# Altium schematic symbol library Diode_Bridge.SchLib: 214 symbols (part 2 of 2)
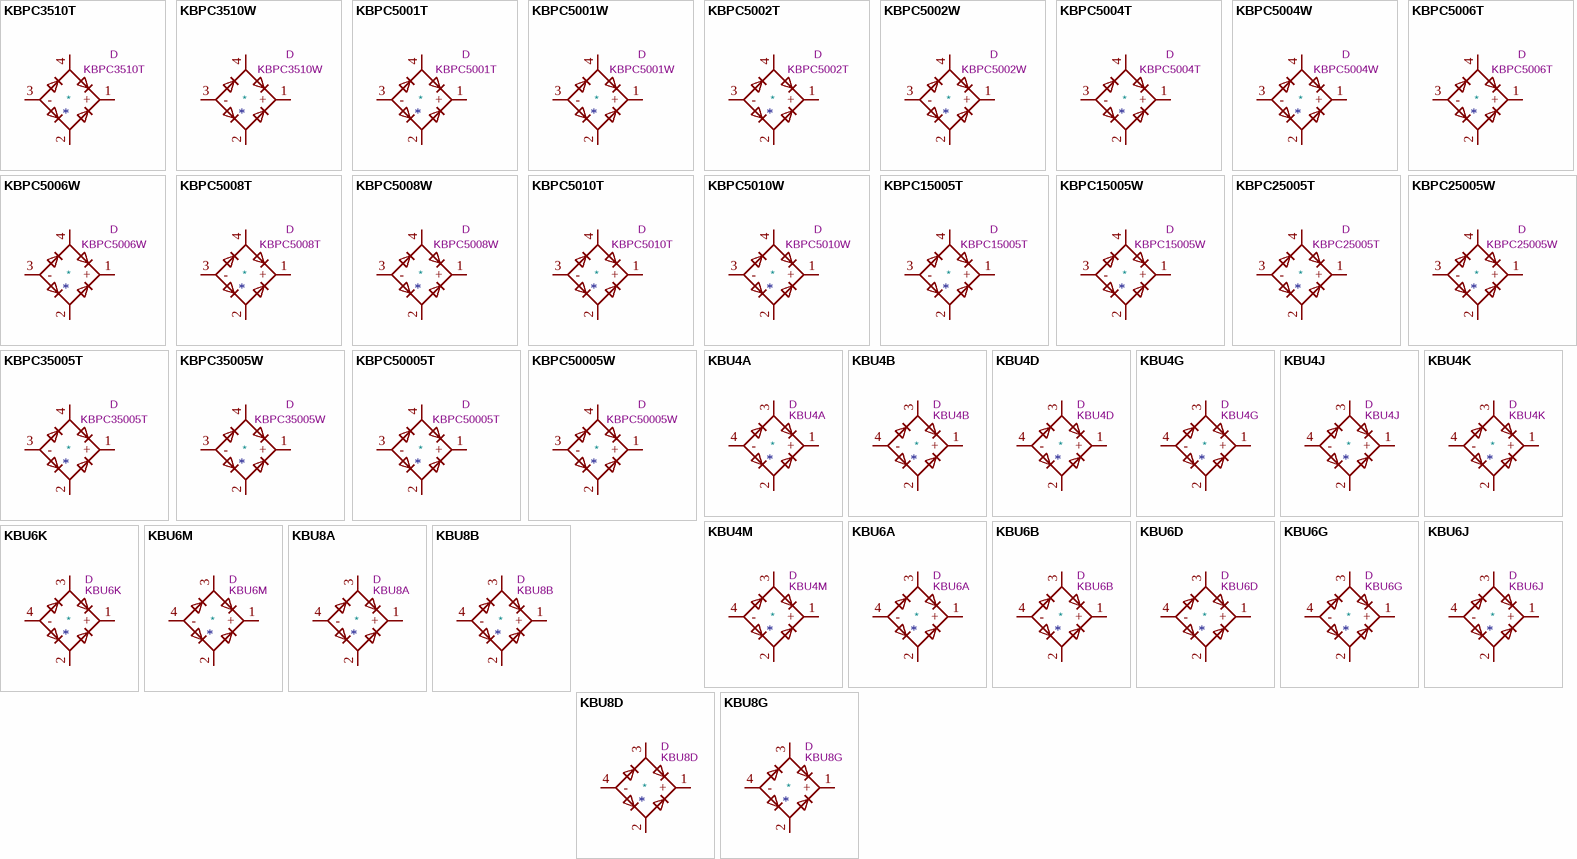
[diagram p6: symbols KBPC3510T to KBU8G]

## KBPC3510W
designator *  value KBPC3510W  Reference: D
Single-Phase Bridge Rectifier, 700V Vrms, 35A If, KBPC-W(WS); ki_keywords: diode full; ki_fp_filters: Diode*Bridge*KBPC?W*; Footprint: Diode_THT:Diode_Bridge_GeneSiC_KBPC_W; Datasheet: https://www.diodemodule.com/bridge-rectifier/kbpc/kbpc3510t.pdf; Description_: Single-Phase Bridge Rectifier, 700V Vrms, 35A If, KBPC-W(WS)
pins: 1 +, 2, 3 -, 4

## KBPC5001T
designator *  value KBPC5001T  Reference: D
Single-Phase Bridge Rectifier, 70V Vrms, 50A If, KBPC-T(FP); ki_keywords: diode full; ki_fp_filters: Diode*Bridge*KBPC?T*; Datasheet: https://www.diodemodule.com/bridge-rectifier/kbpc/kbpc5001t.pdf; Description_: Single-Phase Bridge Rectifier, 70V Vrms, 50A If, KBPC-T(FP)
pins: 1 +, 2, 3 -, 4

## KBPC5001W
designator *  value KBPC5001W  Reference: D
Single-Phase Bridge Rectifier, 70V Vrms, 50A If, KBPC-W(WS); ki_keywords: diode full; ki_fp_filters: Diode*Bridge*KBPC?W*; Footprint: Diode_THT:Diode_Bridge_GeneSiC_KBPC_W; Datasheet: https://www.diodemodule.com/bridge-rectifier/kbpc/kbpc5001t.pdf; Description_: Single-Phase Bridge Rectifier, 70V Vrms, 50A If, KBPC-W(WS)
pins: 1 +, 2, 3 -, 4

## KBPC5002T
designator *  value KBPC5002T  Reference: D
Single-Phase Bridge Rectifier, 140V Vrms, 50A If, KBPC-T(FP); ki_keywords: diode full; ki_fp_filters: Diode*Bridge*KBPC?T*; Datasheet: https://www.diodemodule.com/bridge-rectifier/kbpc/kbpc5002t.pdf; Description_: Single-Phase Bridge Rectifier, 140V Vrms, 50A If, KBPC-T(FP)
pins: 1 +, 2, 3 -, 4

## KBPC5002W
designator *  value KBPC5002W  Reference: D
Single-Phase Bridge Rectifier, 140V Vrms, 50A If, KBPC-W(WS); ki_keywords: diode full; ki_fp_filters: Diode*Bridge*KBPC?W*; Footprint: Diode_THT:Diode_Bridge_GeneSiC_KBPC_W; Datasheet: https://www.diodemodule.com/bridge-rectifier/kbpc/kbpc5002t.pdf; Description_: Single-Phase Bridge Rectifier, 140V Vrms, 50A If, KBPC-W(WS)
pins: 1 +, 2, 3 -, 4

## KBPC5004T
designator *  value KBPC5004T  Reference: D
Single-Phase Bridge Rectifier, 280V Vrms, 50A If, KBPC-T(FP); ki_keywords: diode full; ki_fp_filters: Diode*Bridge*KBPC?T*; Datasheet: https://www.diodemodule.com/bridge-rectifier/kbpc/kbpc5004t.pdf; Description_: Single-Phase Bridge Rectifier, 280V Vrms, 50A If, KBPC-T(FP)
pins: 1 +, 2, 3 -, 4

## KBPC5004W
designator *  value KBPC5004W  Reference: D
Single-Phase Bridge Rectifier, 280V Vrms, 50A If, KBPC-W(WS); ki_keywords: diode full; ki_fp_filters: Diode*Bridge*KBPC?W*; Footprint: Diode_THT:Diode_Bridge_GeneSiC_KBPC_W; Datasheet: https://www.diodemodule.com/bridge-rectifier/kbpc/kbpc5004t.pdf; Description_: Single-Phase Bridge Rectifier, 280V Vrms, 50A If, KBPC-W(WS)
pins: 1 +, 2, 3 -, 4

## KBPC5006T
designator *  value KBPC5006T  Reference: D
Single-Phase Bridge Rectifier, 420V Vrms, 50A If, KBPC-T(FP); ki_keywords: diode full; ki_fp_filters: Diode*Bridge*KBPC?T*; Datasheet: https://www.diodemodule.com/bridge-rectifier/kbpc/kbpc5006t.pdf; Description_: Single-Phase Bridge Rectifier, 420V Vrms, 50A If, KBPC-T(FP)
pins: 1 +, 2, 3 -, 4

## KBPC5006W
designator *  value KBPC5006W  Reference: D
Single-Phase Bridge Rectifier, 420V Vrms, 50A If, KBPC-W(WS); ki_keywords: diode full; ki_fp_filters: Diode*Bridge*KBPC?W*; Footprint: Diode_THT:Diode_Bridge_GeneSiC_KBPC_W; Datasheet: https://www.diodemodule.com/bridge-rectifier/kbpc/kbpc5006t.pdf; Description_: Single-Phase Bridge Rectifier, 420V Vrms, 50A If, KBPC-W(WS)
pins: 1 +, 2, 3 -, 4

## KBPC5008T
designator *  value KBPC5008T  Reference: D
Single-Phase Bridge Rectifier, 560V Vrms, 50A If, KBPC-T(FP); ki_keywords: diode full; ki_fp_filters: Diode*Bridge*KBPC?T*; Datasheet: https://www.diodemodule.com/bridge-rectifier/kbpc/kbpc5008t.pdf; Description_: Single-Phase Bridge Rectifier, 560V Vrms, 50A If, KBPC-T(FP)
pins: 1 +, 2, 3 -, 4

## KBPC5008W
designator *  value KBPC5008W  Reference: D
Single-Phase Bridge Rectifier, 560V Vrms, 50A If, KBPC-W(WS); ki_keywords: diode full; ki_fp_filters: Diode*Bridge*KBPC?W*; Footprint: Diode_THT:Diode_Bridge_GeneSiC_KBPC_W; Datasheet: https://www.diodemodule.com/bridge-rectifier/kbpc/kbpc5008t.pdf; Description_: Single-Phase Bridge Rectifier, 560V Vrms, 50A If, KBPC-W(WS)
pins: 1 +, 2, 3 -, 4

## KBPC5010T
designator *  value KBPC5010T  Reference: D
Single-Phase Bridge Rectifier, 700V Vrms, 50A If, KBPC-T(FP); ki_keywords: diode full; ki_fp_filters: Diode*Bridge*KBPC?T*; Datasheet: https://www.diodemodule.com/bridge-rectifier/kbpc/kbpc5010t.pdf; Description_: Single-Phase Bridge Rectifier, 700V Vrms, 50A If, KBPC-T(FP)
pins: 1 +, 2, 3 -, 4

## KBPC5010W
designator *  value KBPC5010W  Reference: D
Single-Phase Bridge Rectifier, 700V Vrms, 50A If, KBPC-W(WS); ki_keywords: diode full; ki_fp_filters: Diode*Bridge*KBPC?W*; Footprint: Diode_THT:Diode_Bridge_GeneSiC_KBPC_W; Datasheet: https://www.diodemodule.com/bridge-rectifier/kbpc/kbpc5010t.pdf; Description_: Single-Phase Bridge Rectifier, 700V Vrms, 50A If, KBPC-W(WS)
pins: 1 +, 2, 3 -, 4

## KBPC15005T
designator *  value KBPC15005T  Reference: D
Single-Phase Bridge Rectifier, 35V Vrms, 15A If, KBPC-T(FP); ki_keywords: diode full; ki_fp_filters: Diode*Bridge*KBPC?T*; Datasheet: https://www.diodemodule.com/bridge-rectifier/kbpc/kbpc15005t.pdf; Description_: Single-Phase Bridge Rectifier, 35V Vrms, 15A If, KBPC-T(FP)
pins: 1 +, 2, 3 -, 4

## KBPC15005W
designator *  value KBPC15005W  Reference: D
Single-Phase Bridge Rectifier, 35V Vrms, 15A If, KBPC-W(WS); ki_keywords: diode full; ki_fp_filters: Diode*Bridge*KBPC?W*; Footprint: Diode_THT:Diode_Bridge_GeneSiC_KBPC_W; Datasheet: https://www.diodemodule.com/bridge-rectifier/kbpc/kbpc15005t.pdf; Description_: Single-Phase Bridge Rectifier, 35V Vrms, 15A If, KBPC-W(WS)
pins: 1 +, 2, 3 -, 4

## KBPC25005T
designator *  value KBPC25005T  Reference: D
Single-Phase Bridge Rectifier, 35V Vrms, 25A If, KBPC-T(FP); ki_keywords: diode full; ki_fp_filters: Diode*Bridge*KBPC?T*; Datasheet: https://www.diodemodule.com/bridge-rectifier/kbpc/kbpc25005t.pdf; Description_: Single-Phase Bridge Rectifier, 35V Vrms, 25A If, KBPC-T(FP)
pins: 1 +, 2, 3 -, 4

## KBPC25005W
designator *  value KBPC25005W  Reference: D
Single-Phase Bridge Rectifier, 35V Vrms, 25A If, KBPC-W(WS); ki_keywords: diode full; ki_fp_filters: Diode*Bridge*KBPC?W*; Footprint: Diode_THT:Diode_Bridge_GeneSiC_KBPC_W; Datasheet: https://www.diodemodule.com/bridge-rectifier/kbpc/kbpc25005t.pdf; Description_: Single-Phase Bridge Rectifier, 35V Vrms, 25A If, KBPC-W(WS)
pins: 1 +, 2, 3 -, 4

## KBPC35005T
designator *  value KBPC35005T  Reference: D
Single-Phase Bridge Rectifier, 35V Vrms, 35A If, KBPC-T(FP); ki_keywords: diode full; ki_fp_filters: Diode*Bridge*KBPC?T*; Datasheet: https://www.diodemodule.com/bridge-rectifier/kbpc/kbpc35005t.pdf; Description_: Single-Phase Bridge Rectifier, 35V Vrms, 35A If, KBPC-T(FP)
pins: 1 +, 2, 3 -, 4

## KBPC35005W
designator *  value KBPC35005W  Reference: D
Single-Phase Bridge Rectifier, 35V Vrms, 35A If, KBPC-W(WS); ki_keywords: diode full; ki_fp_filters: Diode*Bridge*KBPC?W*; Footprint: Diode_THT:Diode_Bridge_GeneSiC_KBPC_W; Datasheet: https://www.diodemodule.com/bridge-rectifier/kbpc/kbpc35005t.pdf; Description_: Single-Phase Bridge Rectifier, 35V Vrms, 35A If, KBPC-W(WS)
pins: 1 +, 2, 3 -, 4

## KBPC50005T
designator *  value KBPC50005T  Reference: D
Single-Phase Bridge Rectifier, 35V Vrms, 50A If, KBPC-T(FP); ki_keywords: diode full; ki_fp_filters: Diode*Bridge*KBPC?T*; Datasheet: https://www.diodemodule.com/bridge-rectifier/kbpc/kbpc50005t.pdf; Description_: Single-Phase Bridge Rectifier, 35V Vrms, 50A If, KBPC-T(FP)
pins: 1 +, 2, 3 -, 4

## KBPC50005W
designator *  value KBPC50005W  Reference: D
Single-Phase Bridge Rectifier, 35V Vrms, 50A If, KBPC-W(WS); ki_keywords: diode full; ki_fp_filters: Diode*Bridge*KBPC?W*; Footprint: Diode_THT:Diode_Bridge_GeneSiC_KBPC_W; Datasheet: https://www.diodemodule.com/bridge-rectifier/kbpc/kbpc50005t.pdf; Description_: Single-Phase Bridge Rectifier, 35V Vrms, 50A If, KBPC-W(WS)
pins: 1 +, 2, 3 -, 4

## KBU4A
designator *  value KBU4A  Reference: D
Single-Phase Bridge Rectifier, 35V Vrms, 4.0A If, KBU package; ki_keywords: rectifier acdc; ki_fp_filters: Diode*Bridge*Vishay*KBU*; Footprint: Diode_THT:Diode_Bridge_Vishay_KBU; Datasheet: http://www.vishay.com/docs/88656/kbu4.pdf; Description_: Single-Phase Bridge Rectifier, 35V Vrms, 4.0A If, KBU package
pins: 1 +, 2, 3, 4 -

## KBU4B
designator *  value KBU4B  Reference: D
Single-Phase Bridge Rectifier, 70V Vrms, 4.0A If, KBU package; ki_keywords: rectifier acdc; ki_fp_filters: Diode*Bridge*Vishay*KBU*; Footprint: Diode_THT:Diode_Bridge_Vishay_KBU; Datasheet: http://www.vishay.com/docs/88656/kbu4.pdf; Description_: Single-Phase Bridge Rectifier, 70V Vrms, 4.0A If, KBU package
pins: 1 +, 2, 3, 4 -

## KBU4D
designator *  value KBU4D  Reference: D
Single-Phase Bridge Rectifier, 140V Vrms, 4.0A If, KBU package; ki_keywords: rectifier acdc; ki_fp_filters: Diode*Bridge*Vishay*KBU*; Footprint: Diode_THT:Diode_Bridge_Vishay_KBU; Datasheet: http://www.vishay.com/docs/88656/kbu4.pdf; Description_: Single-Phase Bridge Rectifier, 140V Vrms, 4.0A If, KBU package
pins: 1 +, 2, 3, 4 -

## KBU4G
designator *  value KBU4G  Reference: D
Single-Phase Bridge Rectifier, 280V Vrms, 4.0A If, KBU package; ki_keywords: rectifier acdc; ki_fp_filters: Diode*Bridge*Vishay*KBU*; Footprint: Diode_THT:Diode_Bridge_Vishay_KBU; Datasheet: http://www.vishay.com/docs/88656/kbu4.pdf; Description_: Single-Phase Bridge Rectifier, 280V Vrms, 4.0A If, KBU package
pins: 1 +, 2, 3, 4 -

## KBU4J
designator *  value KBU4J  Reference: D
Single-Phase Bridge Rectifier, 420V Vrms, 4.0A If, KBU package; ki_keywords: rectifier acdc; ki_fp_filters: Diode*Bridge*Vishay*KBU*; Footprint: Diode_THT:Diode_Bridge_Vishay_KBU; Datasheet: http://www.vishay.com/docs/88656/kbu4.pdf; Description_: Single-Phase Bridge Rectifier, 420V Vrms, 4.0A If, KBU package
pins: 1 +, 2, 3, 4 -

## KBU4K
designator *  value KBU4K  Reference: D
Single-Phase Bridge Rectifier, 560V Vrms, 4.0A If, KBU package; ki_keywords: rectifier acdc; ki_fp_filters: Diode*Bridge*Vishay*KBU*; Footprint: Diode_THT:Diode_Bridge_Vishay_KBU; Datasheet: http://www.vishay.com/docs/88656/kbu4.pdf; Description_: Single-Phase Bridge Rectifier, 560V Vrms, 4.0A If, KBU package
pins: 1 +, 2, 3, 4 -

## KBU4M
designator *  value KBU4M  Reference: D
Single-Phase Bridge Rectifier, 700V Vrms, 4.0A If, KBU package; ki_keywords: rectifier acdc; ki_fp_filters: Diode*Bridge*Vishay*KBU*; Footprint: Diode_THT:Diode_Bridge_Vishay_KBU; Datasheet: http://www.vishay.com/docs/88656/kbu4.pdf; Description_: Single-Phase Bridge Rectifier, 700V Vrms, 4.0A If, KBU package
pins: 1 +, 2, 3, 4 -

## KBU6A
designator *  value KBU6A  Reference: D
Single-Phase Bridge Rectifier, 35V Vrms, 6.0A If, KBU package; ki_keywords: rectifier acdc; ki_fp_filters: Diode*Bridge*Vishay*KBU*; Footprint: Diode_THT:Diode_Bridge_Vishay_KBU; Datasheet: http://www.vishay.com/docs/88656/kbu6.pdf; Description_: Single-Phase Bridge Rectifier, 35V Vrms, 6.0A If, KBU package
pins: 1 +, 2, 3, 4 -

## KBU6B
designator *  value KBU6B  Reference: D
Single-Phase Bridge Rectifier, 70V Vrms, 6.0A If, KBU package; ki_keywords: rectifier acdc; ki_fp_filters: Diode*Bridge*Vishay*KBU*; Footprint: Diode_THT:Diode_Bridge_Vishay_KBU; Datasheet: http://www.vishay.com/docs/88656/kbu6.pdf; Description_: Single-Phase Bridge Rectifier, 70V Vrms, 6.0A If, KBU package
pins: 1 +, 2, 3, 4 -

## KBU6D
designator *  value KBU6D  Reference: D
Single-Phase Bridge Rectifier, 140V Vrms, 6.0A If, KBU package; ki_keywords: rectifier acdc; ki_fp_filters: Diode*Bridge*Vishay*KBU*; Footprint: Diode_THT:Diode_Bridge_Vishay_KBU; Datasheet: http://www.vishay.com/docs/88656/kbu6.pdf; Description_: Single-Phase Bridge Rectifier, 140V Vrms, 6.0A If, KBU package
pins: 1 +, 2, 3, 4 -

## KBU6G
designator *  value KBU6G  Reference: D
Single-Phase Bridge Rectifier, 280V Vrms, 6.0A If, KBU package; ki_keywords: rectifier acdc; ki_fp_filters: Diode*Bridge*Vishay*KBU*; Footprint: Diode_THT:Diode_Bridge_Vishay_KBU; Datasheet: http://www.vishay.com/docs/88656/kbu6.pdf; Description_: Single-Phase Bridge Rectifier, 280V Vrms, 6.0A If, KBU package
pins: 1 +, 2, 3, 4 -

## KBU6J
designator *  value KBU6J  Reference: D
Single-Phase Bridge Rectifier, 420V Vrms, 6.0A If, KBU package; ki_keywords: rectifier acdc; ki_fp_filters: Diode*Bridge*Vishay*KBU*; Footprint: Diode_THT:Diode_Bridge_Vishay_KBU; Datasheet: http://www.vishay.com/docs/88656/kbu6.pdf; Description_: Single-Phase Bridge Rectifier, 420V Vrms, 6.0A If, KBU package
pins: 1 +, 2, 3, 4 -

## KBU6K
designator *  value KBU6K  Reference: D
Single-Phase Bridge Rectifier, 560V Vrms, 6.0A If, KBU package; ki_keywords: rectifier acdc; ki_fp_filters: Diode*Bridge*Vishay*KBU*; Footprint: Diode_THT:Diode_Bridge_Vishay_KBU; Datasheet: http://www.vishay.com/docs/88656/kbu6.pdf; Description_: Single-Phase Bridge Rectifier, 560V Vrms, 6.0A If, KBU package
pins: 1 +, 2, 3, 4 -

## KBU6M
designator *  value KBU6M  Reference: D
Single-Phase Bridge Rectifier, 700V Vrms, 6.0A If, KBU package; ki_keywords: rectifier acdc; ki_fp_filters: Diode*Bridge*Vishay*KBU*; Footprint: Diode_THT:Diode_Bridge_Vishay_KBU; Datasheet: http://www.vishay.com/docs/88656/kbu6.pdf; Description_: Single-Phase Bridge Rectifier, 700V Vrms, 6.0A If, KBU package
pins: 1 +, 2, 3, 4 -

## KBU8A
designator *  value KBU8A  Reference: D
Single-Phase Bridge Rectifier, 35V Vrms, 8.0A If, KBU package; ki_keywords: rectifier acdc; ki_fp_filters: Diode*Bridge*Vishay*KBU*; Footprint: Diode_THT:Diode_Bridge_Vishay_KBU; Datasheet: http://www.vishay.com/docs/88656/kbu8.pdf; Description_: Single-Phase Bridge Rectifier, 35V Vrms, 8.0A If, KBU package
pins: 1 +, 2, 3, 4 -

## KBU8B
designator *  value KBU8B  Reference: D
Single-Phase Bridge Rectifier, 70V Vrms, 8.0A If, KBU package; ki_keywords: rectifier acdc; ki_fp_filters: Diode*Bridge*Vishay*KBU*; Footprint: Diode_THT:Diode_Bridge_Vishay_KBU; Datasheet: http://www.vishay.com/docs/88656/kbu8.pdf; Description_: Single-Phase Bridge Rectifier, 70V Vrms, 8.0A If, KBU package
pins: 1 +, 2, 3, 4 -

## KBU8D
designator *  value KBU8D  Reference: D
Single-Phase Bridge Rectifier, 140V Vrms, 8.0A If, KBU package; ki_keywords: rectifier acdc; ki_fp_filters: Diode*Bridge*Vishay*KBU*; Footprint: Diode_THT:Diode_Bridge_Vishay_KBU; Datasheet: http://www.vishay.com/docs/88656/kbu8.pdf; Description_: Single-Phase Bridge Rectifier, 140V Vrms, 8.0A If, KBU package
pins: 1 +, 2, 3, 4 -

## KBU8G
designator *  value KBU8G  Reference: D
Single-Phase Bridge Rectifier, 280V Vrms, 8.0A If, KBU package; ki_keywords: rectifier acdc; ki_fp_filters: Diode*Bridge*Vishay*KBU*; Footprint: Diode_THT:Diode_Bridge_Vishay_KBU; Datasheet: http://www.vishay.com/docs/88656/kbu8.pdf; Description_: Single-Phase Bridge Rectifier, 280V Vrms, 8.0A If, KBU package
pins: 1 +, 2, 3, 4 -

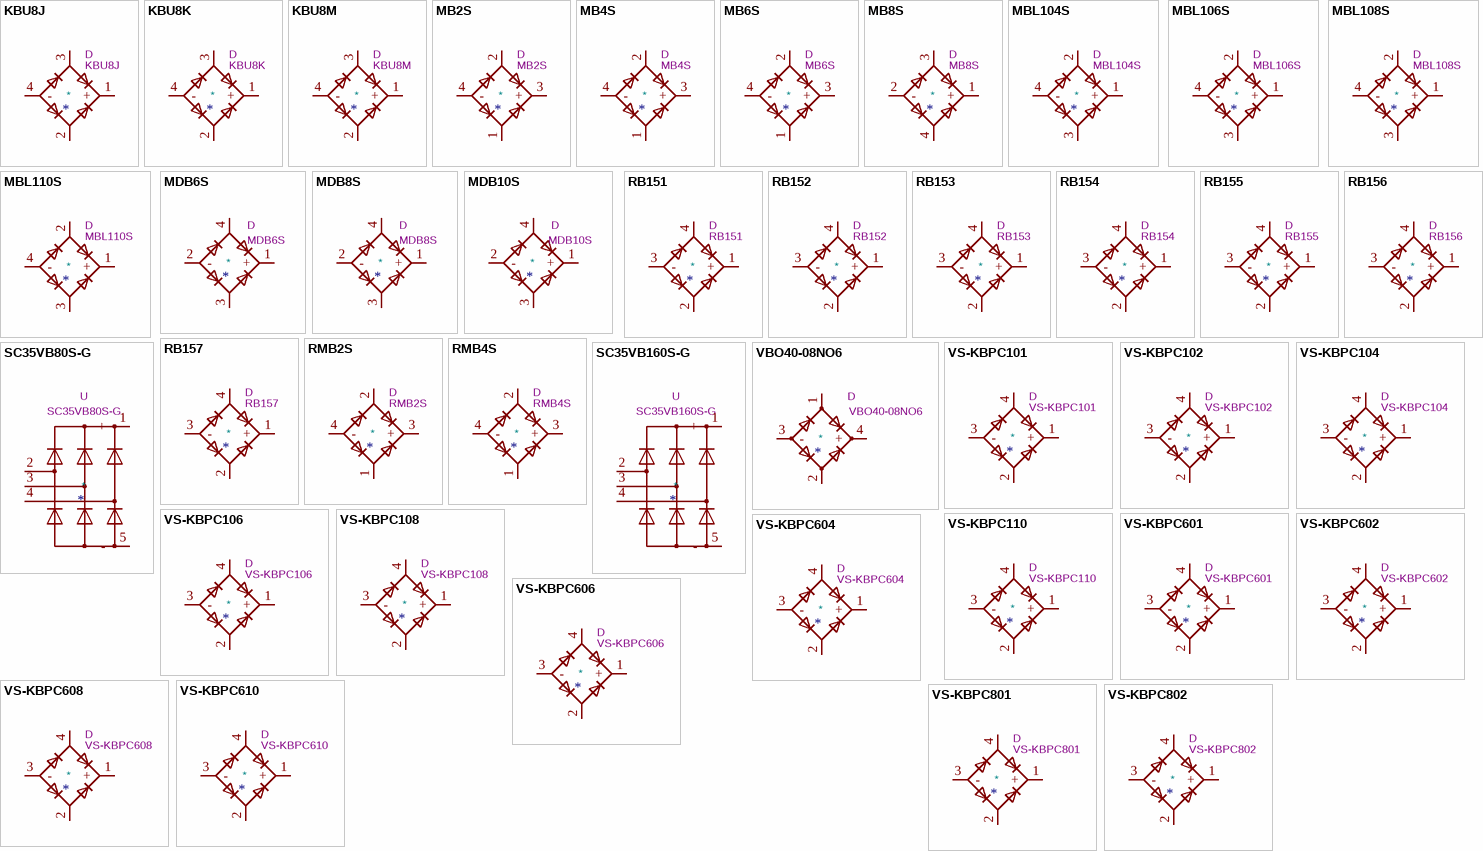
[diagram p4: symbols KBU8J to VS-KBPC802]

## KBU8J
designator *  value KBU8J  Reference: D
Single-Phase Bridge Rectifier, 420V Vrms, 8.0A If, KBU package; ki_keywords: rectifier acdc; ki_fp_filters: Diode*Bridge*Vishay*KBU*; Footprint: Diode_THT:Diode_Bridge_Vishay_KBU; Datasheet: http://www.vishay.com/docs/88656/kbu8.pdf; Description_: Single-Phase Bridge Rectifier, 420V Vrms, 8.0A If, KBU package
pins: 1 +, 2, 3, 4 -

## KBU8K
designator *  value KBU8K  Reference: D
Single-Phase Bridge Rectifier, 560V Vrms, 8.0A If, KBU package; ki_keywords: rectifier acdc; ki_fp_filters: Diode*Bridge*Vishay*KBU*; Footprint: Diode_THT:Diode_Bridge_Vishay_KBU; Datasheet: http://www.vishay.com/docs/88656/kbu8.pdf; Description_: Single-Phase Bridge Rectifier, 560V Vrms, 8.0A If, KBU package
pins: 1 +, 2, 3, 4 -

## KBU8M
designator *  value KBU8M  Reference: D
Single-Phase Bridge Rectifier, 700V Vrms, 8.0A If, KBU package; ki_keywords: rectifier acdc; ki_fp_filters: Diode*Bridge*Vishay*KBU*; Footprint: Diode_THT:Diode_Bridge_Vishay_KBU; Datasheet: http://www.vishay.com/docs/88656/kbu8.pdf; Description_: Single-Phase Bridge Rectifier, 700V Vrms, 8.0A If, KBU package
pins: 1 +, 2, 3, 4 -

## MB2S
designator *  value MB2S  Reference: D
Miniature Glass Passivated Single-Phase Surface Mount Bridge Rectifiers, 140V Vrms, 0.5A If, TO-269AA; ki_keywords: rectifier acdc; ki_fp_filters: TO?269AA*; Footprint: Package_TO_SOT_SMD:TO-269AA; Datasheet: http://www.vishay.com/docs/88661/mb2s.pdf; Description_: Miniature Glass Passivated Single-Phase Surface Mount Bridge Rectifiers, 140V Vrms, 0.5A If, TO-269AA
pins: 1, 2, 3 +, 4 -

## MB4S
designator *  value MB4S  Reference: D
Miniature Glass Passivated Single-Phase Surface Mount Bridge Rectifiers, 280V Vrms, 0.5A If, TO-269AA; ki_keywords: rectifier acdc; ki_fp_filters: TO?269AA*; Footprint: Package_TO_SOT_SMD:TO-269AA; Datasheet: http://www.vishay.com/docs/88661/mb2s.pdf; Description_: Miniature Glass Passivated Single-Phase Surface Mount Bridge Rectifiers, 280V Vrms, 0.5A If, TO-269AA
pins: 1, 2, 3 +, 4 -

## MB6S
designator *  value MB6S  Reference: D
Miniature Glass Passivated Single-Phase Surface Mount Bridge Rectifiers, 700V Vrms, 1.0A If, DFS SMD package; ki_keywords: rectifier acdc; ki_fp_filters: TO?269AA*; Footprint: Package_TO_SOT_SMD:TO-269AA; Datasheet: http://www.vishay.com/docs/88573/dfs.pdf; Description_: Miniature Glass Passivated Single-Phase Surface Mount Bridge Rectifiers, 700V Vrms, 1.0A If, DFS SMD package
pins: 1, 2, 3 +, 4 -

## MB8S
designator *  value MB8S  Reference: D
Bridge Rectifier, 560V Vrms, 35A Ifsm, 0.5A If(av), SOIC-4 (Onsemi CASE 751EP); ki_keywords: Onsemi diode-bridge; ki_fp_filters: OnSemi?751EP?SOIC*3.9x4.725mm?P2.54mm*; Footprint: Package_SO:OnSemi_751EP_SOIC-4_3.9x4.725mm_P2.54mm; Datasheet: https://www.onsemi.com/pdf/datasheet/mb8s-d.pdf; Description_: Bridge Rectifier, 560V Vrms, 35A Ifsm, 0.5A If(av), SOIC-4 (Onsemi CASE 751EP)
pins: 1 +, 2 -, 3, 4

## MBL104S
designator *  value MBL104S  Reference: D
Miniature Glass Passivated Single-Phase Surface Mount Bridge Rectifiers, 280V Vrms, 1.0A If, MBLS SMD package; ki_keywords: rectifier acdc; ki_fp_filters: Diode*Bridge*Vishay*MBLS*; Footprint: Diode_SMD:Diode_Bridge_Vishay_MBLS; Datasheet: http://www.vishay.com/docs/89959/mbl104s.pdf; Description_: Miniature Glass Passivated Single-Phase Surface Mount Bridge Rectifiers, 280V Vrms, 1.0A If, MBLS SMD package
pins: 1 +, 2, 3, 4 -

## MBL106S
designator *  value MBL106S  Reference: D
Miniature Glass Passivated Single-Phase Surface Mount Bridge Rectifiers, 420V Vrms, 1.0A If, MBLS SMD package; ki_keywords: rectifier acdc; ki_fp_filters: Diode*Bridge*Vishay*MBLS*; Footprint: Diode_SMD:Diode_Bridge_Vishay_MBLS; Datasheet: http://www.vishay.com/docs/89959/mbl104s.pdf; Description_: Miniature Glass Passivated Single-Phase Surface Mount Bridge Rectifiers, 420V Vrms, 1.0A If, MBLS SMD package
pins: 1 +, 2, 3, 4 -

## MBL108S
designator *  value MBL108S  Reference: D
Miniature Glass Passivated Single-Phase Surface Mount Bridge Rectifiers, 560V Vrms, 1.0A If, MBLS SMD package; ki_keywords: rectifier acdc; ki_fp_filters: Diode*Bridge*Vishay*MBLS*; Footprint: Diode_SMD:Diode_Bridge_Vishay_MBLS; Datasheet: http://www.vishay.com/docs/89959/mbl104s.pdf; Description_: Miniature Glass Passivated Single-Phase Surface Mount Bridge Rectifiers, 560V Vrms, 1.0A If, MBLS SMD package
pins: 1 +, 2, 3, 4 -

## MBL110S
designator *  value MBL110S  Reference: D
Miniature Glass Passivated Single-Phase Surface Mount Bridge Rectifiers, 700V Vrms, 1.0A If, MBLS SMD package; ki_keywords: rectifier acdc; ki_fp_filters: Diode*Bridge*Vishay*MBLS*; Footprint: Diode_SMD:Diode_Bridge_Vishay_MBLS; Datasheet: http://www.vishay.com/docs/89959/mbl104s.pdf; Description_: Miniature Glass Passivated Single-Phase Surface Mount Bridge Rectifiers, 700V Vrms, 1.0A If, MBLS SMD package
pins: 1 +, 2, 3, 4 -

## MDB6S
designator *  value MDB6S  Reference: D
Single-Phase Bridge Rectifier, 420V Vrms, 1A If, TSSOP-4; ki_keywords: bridge diode rectifier ac dc acdc ac-dc; ki_fp_filters: TSSOP*4.4x5mm*P4mm*; Footprint: Package_SO:TSSOP-4_4.4x5mm_P4mm; Datasheet: https://www.onsemi.com/pub/Collateral/MDB8S-D.PDF; Description_: Single-Phase Bridge Rectifier, 420V Vrms, 1A If, TSSOP-4
pins: 1 +, 2 -, 3, 4

## MDB8S
designator *  value MDB8S  Reference: D
Single-Phase Bridge Rectifier, 560V Vrms, 1A If, TSSOP-4; ki_keywords: bridge diode rectifier ac dc acdc ac-dc; ki_fp_filters: TSSOP*4.4x5mm*P4mm*; Footprint: Package_SO:TSSOP-4_4.4x5mm_P4mm; Datasheet: https://www.onsemi.com/pub/Collateral/MDB8S-D.PDF; Description_: Single-Phase Bridge Rectifier, 560V Vrms, 1A If, TSSOP-4
pins: 1 +, 2 -, 3, 4

## MDB10S
designator *  value MDB10S  Reference: D
Single-Phase Bridge Rectifier, 700V Vrms, 1A If, TSSOP-4; ki_keywords: bridge diode rectifier ac dc acdc ac-dc; ki_fp_filters: TSSOP*4.4x5mm*P4mm*; Footprint: Package_SO:TSSOP-4_4.4x5mm_P4mm; Datasheet: https://www.onsemi.com/pub/Collateral/MDB8S-D.PDF; Description_: Single-Phase Bridge Rectifier, 700V Vrms, 1A If, TSSOP-4
pins: 1 +, 2 -, 3, 4

## RB151
designator *  value RB151  Reference: D
Single-Phase Bridge Rectifier, 35V Vrms, 1.5A If, WOG-like package; ki_keywords: rectifier acdc; ki_fp_filters: D*Bridge*Round*D9.0mm*; Footprint: Diode_THT:Diode_Bridge_Round_D9.0mm; Datasheet: https://www.rectron.com/public/product_datasheets/rb151-rb157.pdf; Description_: Single-Phase Bridge Rectifier, 35V Vrms, 1.5A If, WOG-like package
pins: 1 +, 2, 3 -, 4

## RB152
designator *  value RB152  Reference: D
Single-Phase Bridge Rectifier, 70V Vrms, 1.5A If, WOG-like package; ki_keywords: rectifier acdc; ki_fp_filters: D*Bridge*Round*D9.0mm*; Footprint: Diode_THT:Diode_Bridge_Round_D9.0mm; Datasheet: https://www.rectron.com/public/product_datasheets/rb151-rb157.pdf; Description_: Single-Phase Bridge Rectifier, 70V Vrms, 1.5A If, WOG-like package
pins: 1 +, 2, 3 -, 4

## RB153
designator *  value RB153  Reference: D
Single-Phase Bridge Rectifier, 140V Vrms, 1.5A If, WOG-like package; ki_keywords: rectifier acdc; ki_fp_filters: D*Bridge*Round*D9.0mm*; Footprint: Diode_THT:Diode_Bridge_Round_D9.0mm; Datasheet: https://www.rectron.com/public/product_datasheets/rb151-rb157.pdf; Description_: Single-Phase Bridge Rectifier, 140V Vrms, 1.5A If, WOG-like package
pins: 1 +, 2, 3 -, 4

## RB154
designator *  value RB154  Reference: D
Single-Phase Bridge Rectifier, 280V Vrms, 1.5A If, WOG-like package; ki_keywords: rectifier acdc; ki_fp_filters: D*Bridge*Round*D9.0mm*; Footprint: Diode_THT:Diode_Bridge_Round_D9.0mm; Datasheet: https://www.rectron.com/public/product_datasheets/rb151-rb157.pdf; Description_: Single-Phase Bridge Rectifier, 280V Vrms, 1.5A If, WOG-like package
pins: 1 +, 2, 3 -, 4

## RB155
designator *  value RB155  Reference: D
Single-Phase Bridge Rectifier, 420V Vrms, 1.5A If, WOG-like package; ki_keywords: rectifier acdc; ki_fp_filters: D*Bridge*Round*D9.0mm*; Footprint: Diode_THT:Diode_Bridge_Round_D9.0mm; Datasheet: https://www.rectron.com/public/product_datasheets/rb151-rb157.pdf; Description_: Single-Phase Bridge Rectifier, 420V Vrms, 1.5A If, WOG-like package
pins: 1 +, 2, 3 -, 4

## RB156
designator *  value RB156  Reference: D
Single-Phase Bridge Rectifier, 560V Vrms, 1.5A If, WOG-like package; ki_keywords: rectifier acdc; ki_fp_filters: D*Bridge*Round*D9.0mm*; Footprint: Diode_THT:Diode_Bridge_Round_D9.0mm; Datasheet: https://www.rectron.com/public/product_datasheets/rb151-rb157.pdf; Description_: Single-Phase Bridge Rectifier, 560V Vrms, 1.5A If, WOG-like package
pins: 1 +, 2, 3 -, 4

## RB157
designator *  value RB157  Reference: D
Single-Phase Bridge Rectifier, 700V Vrms, 1.5A If, WOG-like package; ki_keywords: rectifier acdc; ki_fp_filters: D*Bridge*Round*D9.0mm*; Footprint: Diode_THT:Diode_Bridge_Round_D9.0mm; Datasheet: https://www.rectron.com/public/product_datasheets/rb151-rb157.pdf; Description_: Single-Phase Bridge Rectifier, 700V Vrms, 1.5A If, WOG-like package
pins: 1 +, 2, 3 -, 4

## RMB2S
designator *  value RMB2S  Reference: D
Miniature Glass Passivated Single-Phase Surface Mount Bridge Rectifiers, 140V Vrms, 0.5A If, TO-269AA; ki_keywords: rectifier acdc; ki_fp_filters: TO?269AA*; Footprint: Package_TO_SOT_SMD:TO-269AA; Datasheet: http://www.vishay.com/docs/88705/rmbs.pdf; Description_: Miniature Glass Passivated Single-Phase Surface Mount Bridge Rectifiers, 140V Vrms, 0.5A If, TO-269AA
pins: 1, 2, 3 +, 4 -

## RMB4S
designator *  value RMB4S  Reference: D
Miniature Glass Passivated Single-Phase Surface Mount Bridge Rectifiers, 280V Vrms, 0.5A If, TO-269AA; ki_keywords: rectifier acdc; ki_fp_filters: TO?269AA*; Footprint: Package_TO_SOT_SMD:TO-269AA; Datasheet: http://www.vishay.com/docs/88705/rmbs.pdf; Description_: Miniature Glass Passivated Single-Phase Surface Mount Bridge Rectifiers, 280V Vrms, 0.5A If, TO-269AA
pins: 1, 2, 3 +, 4 -

## SC35VB80S-G
designator *  value SC35VB80S-G  Reference: U
560V Vrms, 35A If, SCVB-L; ki_keywords: Three-Phase Bridge Rectifier; ki_fp_filters: Diode*Bridge*Comchip*SCVB?L*; Footprint: Diode_THT:Diode_Bridge_Comchip_SCVB-L; Datasheet: https://www.comchiptech.com/admin/files/product/SC35VB80S-G%20Thru506369.%20SC35VB160S-G%20RevB.pdf; Description_: 560V Vrms, 35A If, SCVB-L
pins: 1 +, 2, 3, 4, 5 -

## SC35VB160S-G
designator *  value SC35VB160S-G  Reference: U
1120V Vrms, 35A If, SCVB-L; ki_keywords: Three-Phase Bridge Rectifier; ki_fp_filters: Diode*Bridge*Comchip*SCVB?L*; Footprint: Diode_THT:Diode_Bridge_Comchip_SCVB-L; Datasheet: https://www.comchiptech.com/admin/files/product/SC35VB80S-G%20Thru506369.%20SC35VB160S-G%20RevB.pdf; Description_: 1120V Vrms, 35A If, SCVB-L
pins: 1 +, 2, 3, 4, 5 -

## VBO40-08NO6
designator *  value VBO40-08NO6  Reference: D
Standard rectifier, Vrrm = 800V, Idav = 40A, SOT-227 (minibloc, ISOTOP); ki_keywords: IXYS ACDC-rectifier diode-bridge; ki_fp_filters: *SOT*227*; Footprint: Package_TO_SOT_THT:SOT-227; Datasheet: https://www.mouser.com/datasheet/2/240/media-3321323.pdf; Description_: Standard rectifier, Vrrm = 800V, Idav = 40A, SOT-227 (minibloc, ISOTOP)
pins: 1, 2, 3 -, 4 +

## VS-KBPC101
designator *  value VS-KBPC101  Reference: D
Single-Phase Bridge Rectifier, 40V Vrms, 3.0A If, KBPC1 package; ki_keywords: rectifier acdc; ki_fp_filters: D*Bridge*Vishay*KBPC1*; Footprint: Diode_THT:Diode_Bridge_Vishay_KBPC1; Datasheet: http://www.vishay.com/docs/93585/vs-kbpc1series.pdf; Description_: Single-Phase Bridge Rectifier, 40V Vrms, 3.0A If, KBPC1 package
pins: 1 +, 2, 3 -, 4

## VS-KBPC102
designator *  value VS-KBPC102  Reference: D
Single-Phase Bridge Rectifier, 80V Vrms, 3.0A If, KBPC1 package; ki_keywords: rectifier acdc; ki_fp_filters: D*Bridge*Vishay*KBPC1*; Footprint: Diode_THT:Diode_Bridge_Vishay_KBPC1; Datasheet: http://www.vishay.com/docs/93585/vs-kbpc1series.pdf; Description_: Single-Phase Bridge Rectifier, 80V Vrms, 3.0A If, KBPC1 package
pins: 1 +, 2, 3 -, 4

## VS-KBPC104
designator *  value VS-KBPC104  Reference: D
Single-Phase Bridge Rectifier, 125V Vrms, 3.0A If, KBPC1 package; ki_keywords: rectifier acdc; ki_fp_filters: D*Bridge*Vishay*KBPC1*; Footprint: Diode_THT:Diode_Bridge_Vishay_KBPC1; Datasheet: http://www.vishay.com/docs/93585/vs-kbpc1series.pdf; Description_: Single-Phase Bridge Rectifier, 125V Vrms, 3.0A If, KBPC1 package
pins: 1 +, 2, 3 -, 4

## VS-KBPC106
designator *  value VS-KBPC106  Reference: D
Single-Phase Bridge Rectifier, 250V Vrms, 3.0A If, KBPC1 package; ki_keywords: rectifier acdc; ki_fp_filters: D*Bridge*Vishay*KBPC1*; Footprint: Diode_THT:Diode_Bridge_Vishay_KBPC1; Datasheet: http://www.vishay.com/docs/93585/vs-kbpc1series.pdf; Description_: Single-Phase Bridge Rectifier, 250V Vrms, 3.0A If, KBPC1 package
pins: 1 +, 2, 3 -, 4

## VS-KBPC108
designator *  value VS-KBPC108  Reference: D
Single-Phase Bridge Rectifier, 380V Vrms, 3.0A If, KBPC1 package; ki_keywords: rectifier acdc; ki_fp_filters: D*Bridge*Vishay*KBPC1*; Footprint: Diode_THT:Diode_Bridge_Vishay_KBPC1; Datasheet: http://www.vishay.com/docs/93585/vs-kbpc1series.pdf; Description_: Single-Phase Bridge Rectifier, 380V Vrms, 3.0A If, KBPC1 package
pins: 1 +, 2, 3 -, 4

## VS-KBPC110
designator *  value VS-KBPC110  Reference: D
Single-Phase Bridge Rectifier, 500V Vrms, 3.0A If, KBPC1 package; ki_keywords: rectifier acdc; ki_fp_filters: D*Bridge*Vishay*KBPC1*; Footprint: Diode_THT:Diode_Bridge_Vishay_KBPC1; Datasheet: http://www.vishay.com/docs/93585/vs-kbpc1series.pdf; Description_: Single-Phase Bridge Rectifier, 500V Vrms, 3.0A If, KBPC1 package
pins: 1 +, 2, 3 -, 4

## VS-KBPC601
designator *  value VS-KBPC601  Reference: D
Single-Phase Bridge Rectifier, 40V Vrms, 6.0A If, KBPC6 package; ki_keywords: rectifier acdc; ki_fp_filters: D*Bridge*Vishay*KBPC6*; Footprint: Diode_THT:Diode_Bridge_Vishay_KBPC6; Datasheet: http://www.vishay.com/docs/93585/vs-kbpc1series.pdf; Description_: Single-Phase Bridge Rectifier, 40V Vrms, 6.0A If, KBPC6 package
pins: 1 +, 2, 3 -, 4

## VS-KBPC602
designator *  value VS-KBPC602  Reference: D
Single-Phase Bridge Rectifier, 80V Vrms, 6.0A If, KBPC6 package; ki_keywords: rectifier acdc; ki_fp_filters: D*Bridge*Vishay*KBPC6*; Footprint: Diode_THT:Diode_Bridge_Vishay_KBPC6; Datasheet: http://www.vishay.com/docs/93585/vs-kbpc1series.pdf; Description_: Single-Phase Bridge Rectifier, 80V Vrms, 6.0A If, KBPC6 package
pins: 1 +, 2, 3 -, 4

## VS-KBPC604
designator *  value VS-KBPC604  Reference: D
Single-Phase Bridge Rectifier, 125V Vrms, 6.0A If, KBPC6 package; ki_keywords: rectifier acdc; ki_fp_filters: D*Bridge*Vishay*KBPC6*; Footprint: Diode_THT:Diode_Bridge_Vishay_KBPC6; Datasheet: http://www.vishay.com/docs/93585/vs-kbpc1series.pdf; Description_: Single-Phase Bridge Rectifier, 125V Vrms, 6.0A If, KBPC6 package
pins: 1 +, 2, 3 -, 4

## VS-KBPC606
designator *  value VS-KBPC606  Reference: D
Single-Phase Bridge Rectifier, 250V Vrms, 6.0A If, KBPC6 package; ki_keywords: rectifier acdc; ki_fp_filters: D*Bridge*Vishay*KBPC6*; Footprint: Diode_THT:Diode_Bridge_Vishay_KBPC6; Datasheet: http://www.vishay.com/docs/93585/vs-kbpc1series.pdf; Description_: Single-Phase Bridge Rectifier, 250V Vrms, 6.0A If, KBPC6 package
pins: 1 +, 2, 3 -, 4

## VS-KBPC608
designator *  value VS-KBPC608  Reference: D
Single-Phase Bridge Rectifier, 380V Vrms, 6.0A If, KBPC6 package; ki_keywords: rectifier acdc; ki_fp_filters: D*Bridge*Vishay*KBPC6*; Footprint: Diode_THT:Diode_Bridge_Vishay_KBPC6; Datasheet: http://www.vishay.com/docs/93585/vs-kbpc1series.pdf; Description_: Single-Phase Bridge Rectifier, 380V Vrms, 6.0A If, KBPC6 package
pins: 1 +, 2, 3 -, 4

## VS-KBPC610
designator *  value VS-KBPC610  Reference: D
Single-Phase Bridge Rectifier, 500V Vrms, 6.0A If, KBPC6 package; ki_keywords: rectifier acdc; ki_fp_filters: D*Bridge*Vishay*KBPC6*; Footprint: Diode_THT:Diode_Bridge_Vishay_KBPC6; Datasheet: http://www.vishay.com/docs/93585/vs-kbpc1series.pdf; Description_: Single-Phase Bridge Rectifier, 500V Vrms, 6.0A If, KBPC6 package
pins: 1 +, 2, 3 -, 4

## VS-KBPC801
designator *  value VS-KBPC801  Reference: D
Single-Phase Bridge Rectifier, 40V Vrms, 8.0A If, KBPC6 package; ki_keywords: rectifier acdc; ki_fp_filters: D*Bridge*Vishay*KBPC6*; Footprint: Diode_THT:Diode_Bridge_Vishay_KBPC6; Datasheet: http://www.vishay.com/docs/93586/kbpc8series.pdf; Description_: Single-Phase Bridge Rectifier, 40V Vrms, 8.0A If, KBPC6 package
pins: 1 +, 2, 3 -, 4

## VS-KBPC802
designator *  value VS-KBPC802  Reference: D
Single-Phase Bridge Rectifier, 80V Vrms, 8.0A If, KBPC6 package; ki_keywords: rectifier acdc; ki_fp_filters: D*Bridge*Vishay*KBPC6*; Footprint: Diode_THT:Diode_Bridge_Vishay_KBPC6; Datasheet: http://www.vishay.com/docs/93586/kbpc8series.pdf; Description_: Single-Phase Bridge Rectifier, 80V Vrms, 8.0A If, KBPC6 package
pins: 1 +, 2, 3 -, 4

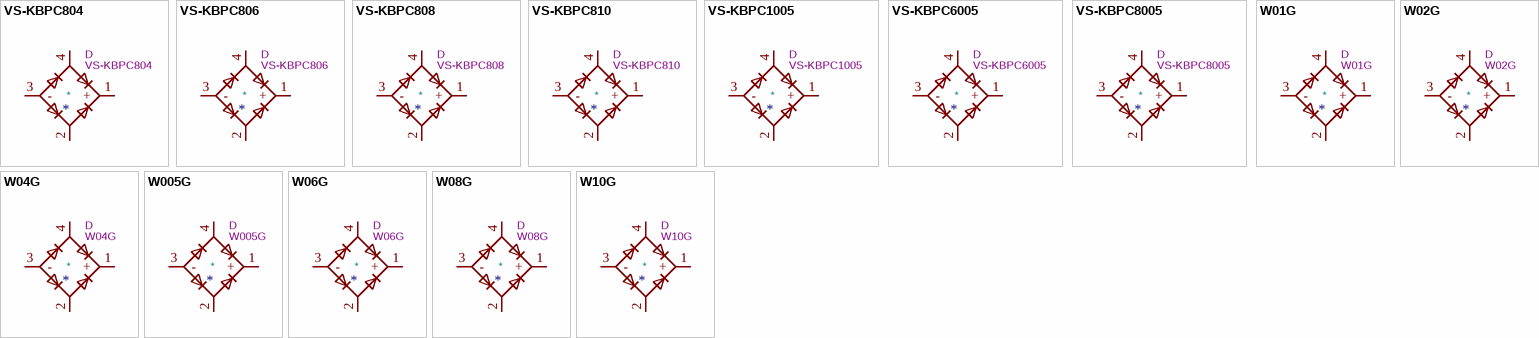
[diagram p5: symbols VS-KBPC804 to W10G]

## VS-KBPC804
designator *  value VS-KBPC804  Reference: D
Single-Phase Bridge Rectifier, 125V Vrms, 8.0A If, KBPC6 package; ki_keywords: rectifier acdc; ki_fp_filters: D*Bridge*Vishay*KBPC6*; Footprint: Diode_THT:Diode_Bridge_Vishay_KBPC6; Datasheet: http://www.vishay.com/docs/93586/kbpc8series.pdf; Description_: Single-Phase Bridge Rectifier, 125V Vrms, 8.0A If, KBPC6 package
pins: 1 +, 2, 3 -, 4

## VS-KBPC806
designator *  value VS-KBPC806  Reference: D
Single-Phase Bridge Rectifier, 250V Vrms, 8.0A If, KBPC6 package; ki_keywords: rectifier acdc; ki_fp_filters: D*Bridge*Vishay*KBPC6*; Footprint: Diode_THT:Diode_Bridge_Vishay_KBPC6; Datasheet: http://www.vishay.com/docs/93586/kbpc8series.pdf; Description_: Single-Phase Bridge Rectifier, 250V Vrms, 8.0A If, KBPC6 package
pins: 1 +, 2, 3 -, 4

## VS-KBPC808
designator *  value VS-KBPC808  Reference: D
Single-Phase Bridge Rectifier, 380V Vrms, 8.0A If, KBPC6 package; ki_keywords: rectifier acdc; ki_fp_filters: D*Bridge*Vishay*KBPC6*; Footprint: Diode_THT:Diode_Bridge_Vishay_KBPC6; Datasheet: http://www.vishay.com/docs/93586/kbpc8series.pdf; Description_: Single-Phase Bridge Rectifier, 380V Vrms, 8.0A If, KBPC6 package
pins: 1 +, 2, 3 -, 4

## VS-KBPC810
designator *  value VS-KBPC810  Reference: D
Single-Phase Bridge Rectifier, 500V Vrms, 8.0A If, KBPC6 package; ki_keywords: rectifier acdc; ki_fp_filters: D*Bridge*Vishay*KBPC6*; Footprint: Diode_THT:Diode_Bridge_Vishay_KBPC6; Datasheet: http://www.vishay.com/docs/93586/kbpc8series.pdf; Description_: Single-Phase Bridge Rectifier, 500V Vrms, 8.0A If, KBPC6 package
pins: 1 +, 2, 3 -, 4

## VS-KBPC1005
designator *  value VS-KBPC1005  Reference: D
Single-Phase Bridge Rectifier, 20V Vrms, 3.0A If, KBPC1 package; ki_keywords: rectifier acdc; ki_fp_filters: D*Bridge*Vishay*KBPC1*; Footprint: Diode_THT:Diode_Bridge_Vishay_KBPC1; Datasheet: http://www.vishay.com/docs/93585/vs-kbpc1series.pdf; Description_: Single-Phase Bridge Rectifier, 20V Vrms, 3.0A If, KBPC1 package
pins: 1 +, 2, 3 -, 4

## VS-KBPC6005
designator *  value VS-KBPC6005  Reference: D
Single-Phase Bridge Rectifier, 20V Vrms, 6.0A If, KBPC6 package; ki_keywords: rectifier acdc; ki_fp_filters: D*Bridge*Vishay*KBPC6*; Footprint: Diode_THT:Diode_Bridge_Vishay_KBPC6; Datasheet: http://www.vishay.com/docs/93585/vs-kbpc1series.pdf; Description_: Single-Phase Bridge Rectifier, 20V Vrms, 6.0A If, KBPC6 package
pins: 1 +, 2, 3 -, 4

## VS-KBPC8005
designator *  value VS-KBPC8005  Reference: D
Single-Phase Bridge Rectifier, 20V Vrms, 8.0A If, KBPC6 package; ki_keywords: rectifier acdc; ki_fp_filters: D*Bridge*Vishay*KBPC6*; Footprint: Diode_THT:Diode_Bridge_Vishay_KBPC6; Datasheet: http://www.vishay.com/docs/93586/kbpc8series.pdf; Description_: Single-Phase Bridge Rectifier, 20V Vrms, 8.0A If, KBPC6 package
pins: 1 +, 2, 3 -, 4

## W01G
designator *  value W01G  Reference: D
Glass Passivated Single-Phase Bridge Rectifier, 70V Vrms, 1.5A If, WOG package; ki_keywords: Bridge Rectifier acdc; ki_fp_filters: D*Bridge*Round*D9.8mm*; Footprint: Diode_THT:Diode_Bridge_Round_D9.8mm; Datasheet: https://www.vishay.com/docs/88769/woo5g.pdf; Description_: Glass Passivated Single-Phase Bridge Rectifier, 70V Vrms, 1.5A If, WOG package
pins: 1 +, 2, 3 -, 4

## W02G
designator *  value W02G  Reference: D
Glass Passivated Single-Phase Bridge Rectifier, 140V Vrms, 1.5A If, WOG package; ki_keywords: Bridge Rectifier acdc; ki_fp_filters: D*Bridge*Round*D9.8mm*; Footprint: Diode_THT:Diode_Bridge_Round_D9.8mm; Datasheet: https://www.vishay.com/docs/88769/woo5g.pdf; Description_: Glass Passivated Single-Phase Bridge Rectifier, 140V Vrms, 1.5A If, WOG package
pins: 1 +, 2, 3 -, 4

## W04G
designator *  value W04G  Reference: D
Glass Passivated Single-Phase Bridge Rectifier, 280V Vrms, 1.5A If, WOG package; ki_keywords: Bridge Rectifier acdc; ki_fp_filters: D*Bridge*Round*D9.8mm*; Footprint: Diode_THT:Diode_Bridge_Round_D9.8mm; Datasheet: https://www.vishay.com/docs/88769/woo5g.pdf; Description_: Glass Passivated Single-Phase Bridge Rectifier, 280V Vrms, 1.5A If, WOG package
pins: 1 +, 2, 3 -, 4

## W005G
designator *  value W005G  Reference: D
Glass Passivated Single-Phase Bridge Rectifier, 35V Vrms, 1.5A If, WOG package; ki_keywords: Bridge Rectifier acdc; ki_fp_filters: D*Bridge*Round*D9.8mm*; Footprint: Diode_THT:Diode_Bridge_Round_D9.8mm; Datasheet: https://www.vishay.com/docs/88769/woo5g.pdf; Description_: Glass Passivated Single-Phase Bridge Rectifier, 35V Vrms, 1.5A If, WOG package
pins: 1 +, 2, 3 -, 4

## W06G
designator *  value W06G  Reference: D
Glass Passivated Single-Phase Bridge Rectifier, 420V Vrms, 1.5A If, WOG package; ki_keywords: Bridge Rectifier acdc; ki_fp_filters: D*Bridge*Round*D9.8mm*; Footprint: Diode_THT:Diode_Bridge_Round_D9.8mm; Datasheet: https://www.vishay.com/docs/88769/woo5g.pdf; Description_: Glass Passivated Single-Phase Bridge Rectifier, 420V Vrms, 1.5A If, WOG package
pins: 1 +, 2, 3 -, 4

## W08G
designator *  value W08G  Reference: D
Glass Passivated Single-Phase Bridge Rectifier, 560V Vrms, 1.5A If, WOG package; ki_keywords: Bridge Rectifier acdc; ki_fp_filters: D*Bridge*Round*D9.8mm*; Footprint: Diode_THT:Diode_Bridge_Round_D9.8mm; Datasheet: https://www.vishay.com/docs/88769/woo5g.pdf; Description_: Glass Passivated Single-Phase Bridge Rectifier, 560V Vrms, 1.5A If, WOG package
pins: 1 +, 2, 3 -, 4

## W10G
designator *  value W10G  Reference: D
Glass Passivated Single-Phase Bridge Rectifier, 700V Vrms, 1.5A If, WOG package; ki_keywords: Bridge Rectifier acdc; ki_fp_filters: D*Bridge*Round*D9.8mm*; Footprint: Diode_THT:Diode_Bridge_Round_D9.8mm; Datasheet: https://www.vishay.com/docs/88769/woo5g.pdf; Description_: Glass Passivated Single-Phase Bridge Rectifier, 700V Vrms, 1.5A If, WOG package
pins: 1 +, 2, 3 -, 4